# Altium schematic symbol library #6_MH.SchLib: 1 symbol
Pins are listed as number, name and electrical type; pins without a type are passive.

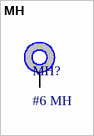
[diagram p0: symbol MH]

## MH
designator MH?, comment #6 MH
#6 Mounting Hole
pins: MH